# EAGLE library part P140KV1 (library pot)
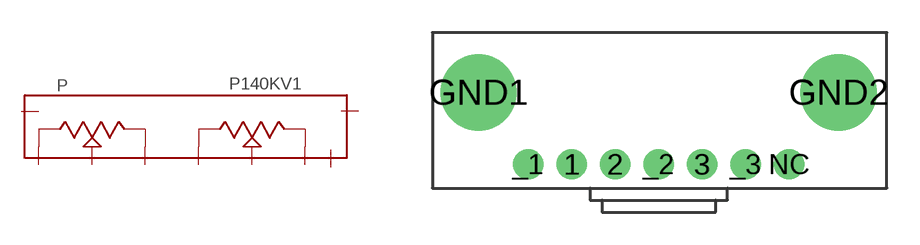
[diagram p0: symbol with the pads of P140; footprint P140]

Designator prefix P

## P140KV1  [P140]
1  1  pas
2  2  pas
3  3  pas
_1  _1  pas
_2  _2  pas
_3  _3  pas
GND1  GND1  pwr
GND2  GND2  pwr
NC  NC  pas

## Footprint P140 (pad centres in mm)
drill 0.8 pad 1.4: 1 2,0; 2 4,0; 3 8,0; _1 0,0; _2 6,0; _3 10,0; NC 12,0
drill 2.25 pad 3.5: GND1 -2.275,3.3; GND2 14.275,3.3